# EAGLE library part FT2232HL (library KW2)
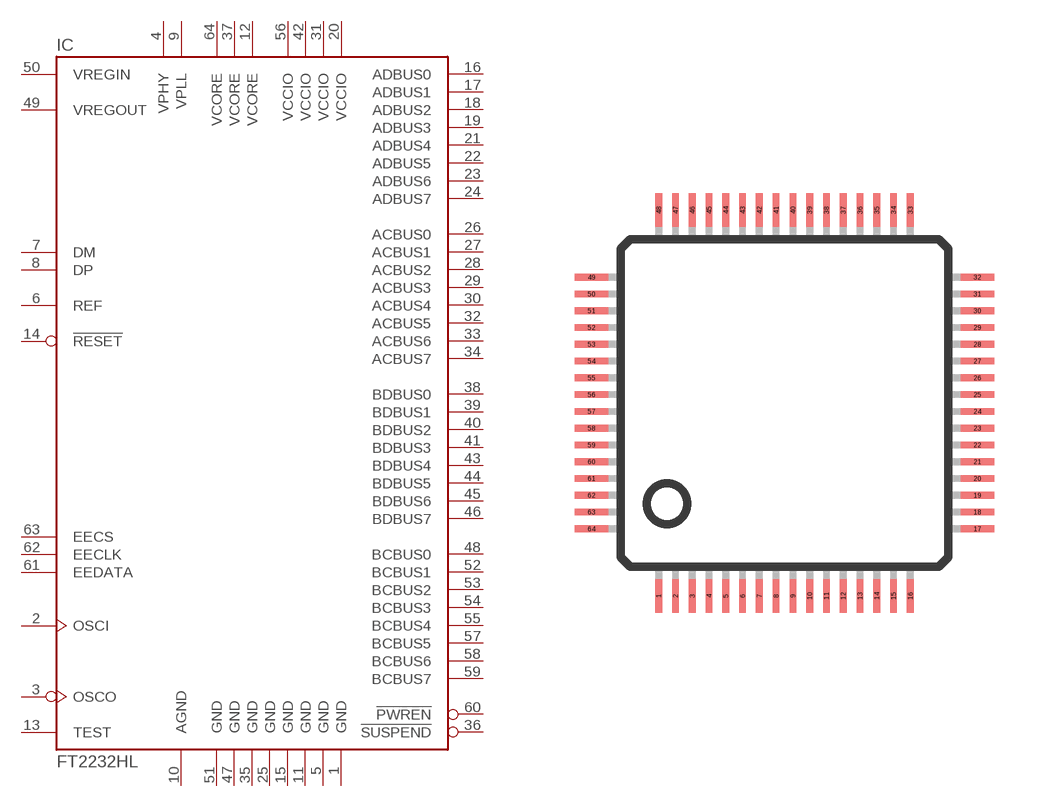
[diagram p19: symbol with the pads of LQFP64; footprint LQFP64]

Designator prefix IC

## FT2232HL  [LQFP64]
1  GND
2  OSCI
3  OSCO
4  VPHY
5  GND
6  REF
7  DM
8  DP
9  VPLL
10  AGND
11  GND
12  VCORE
13  TEST
14  !RESET
15  GND
16  ADBUS0
17  ADBUS1
18  ADBUS2
19  ADBUS3
20  VCCIO
21  ADBUS4
22  ADBUS5
23  ADBUS6
24  ADBUS7
25  GND
26  ACBUS0
27  ACBUS1
28  ACBUS2
29  ACBUS3
30  ACBUS4
31  VCCIO
32  ACBUS5
33  ACBUS6
34  ACBUS7
35  GND
36  !SUSPEND
37  VCORE
38  BDBUS0
39  BDBUS1
40  BDBUS2
41  BDBUS3
42  VCCIO
43  BDBUS4
44  BDBUS5
45  BDBUS6
46  BDBUS7
47  GND
48  BCBUS0
49  VREGOUT
50  VREGIN
51  GND
52  BCBUS1
53  BCBUS2
54  BCBUS3
55  BCBUS4
56  VCCIO
57  BCBUS5
58  BCBUS6
59  BCBUS7
60  !PWREN
61  EEDATA
62  EECLK
63  EECS
64  VCORE

## Footprint LQFP64 (pad centres in mm)
48-pin plastic LQFP (FPT-48P-M26) www.fma.fujitsu.com/pdf/e713717.pdf
smd 0.2 x 1: 1 -3.75,-5.75; 2 -3.25,-5.75; 3 -2.75,-5.75; 4 -2.25,-5.75; 5 -1.75,-5.75; 6 -1.25,-5.75; 7 -0.75,-5.75; 8 -0.25,-5.75; 9 0.25,-5.75; 10 0.75,-5.75; 11 1.25,-5.75; 12 1.75,-5.75; 13 2.25,-5.75; 14 2.75,-5.75; 15 3.25,-5.75; 16 3.75,-5.75; 33 3.75,5.75; 34 3.25,5.75; 35 2.75,5.75; 36 2.25,5.75; 37 1.75,5.75; 38 1.25,5.75; 39 0.75,5.75; 40 0.25,5.75; 41 -0.25,5.75; 42 -0.75,5.75; 43 -1.25,5.75; 44 -1.75,5.75; 45 -2.25,5.75; 46 -2.75,5.75; 47 -3.25,5.75; 48 -3.75,5.75
smd 1 x 0.2: 17 5.75,-3.75; 18 5.75,-3.25; 19 5.75,-2.75; 20 5.75,-2.25; 21 5.75,-1.75; 22 5.75,-1.25; 23 5.75,-0.75; 24 5.75,-0.25; 25 5.75,0.25; 26 5.75,0.75; 27 5.75,1.25; 28 5.75,1.75; 29 5.75,2.25; 30 5.75,2.75; 31 5.75,3.25; 32 5.75,3.75; 49 -5.75,3.75; 50 -5.75,3.25; 51 -5.75,2.75; 52 -5.75,2.25; 53 -5.75,1.75; 54 -5.75,1.25; 55 -5.75,0.75; 56 -5.75,0.25; 57 -5.75,-0.25; 58 -5.75,-0.75; 59 -5.75,-1.25; 60 -5.75,-1.75; 61 -5.75,-2.25; 62 -5.75,-2.75; 63 -5.75,-3.25; 64 -5.75,-3.75